# EAGLE library part MICROFIT-24-DUAL (library Molex)
MicroFit 3.0 (tm) Ridiculously Huge Header, 24 Circuits Datasheet (RA, with solder tab): http://www.molex.com/pdm_docs/sd/430452409_sd.pdf
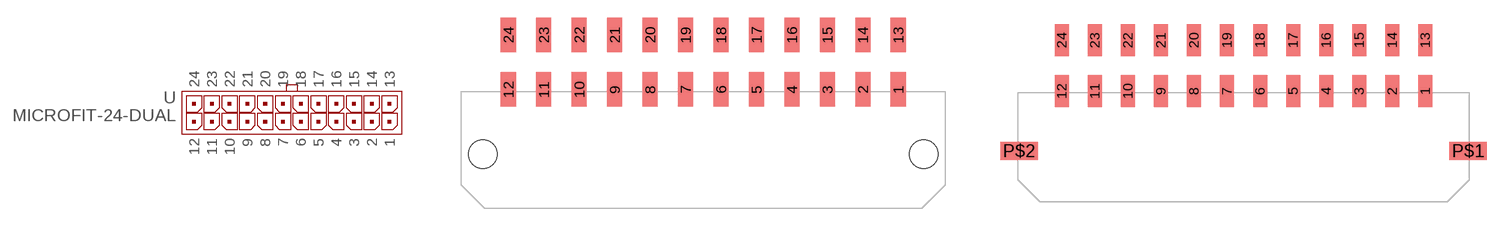
[diagram p11: symbol with the pads of MICROFIT-24-DUAL-RA-SMD; footprints MICROFIT-24-DUAL-RA-SMD, MICROFIT-24-DUAL-RA-SMD-SOLDER_TAB]

Designator prefix -

## MICROFIT-24-DUAL-RA-SMD  [MICROFIT-24-DUAL-RA-SMD]
1  1
2  2
3  3
4  4
5  5
6  6
7  7
8  8
9  9
10  10
11  11
12  12
13  13
14  14
15  15
16  16
17  17
18  18
19  19
20  20
21  21
22  22
23  23
24  24

## MICROFIT-24-DUAL-RA-SMD-SOLDER_TAB  [MICROFIT-24-DUAL-RA-SMD-SOLDER_TAB]
Pads as for MICROFIT-24-DUAL-RA-SMD

## Footprint MICROFIT-24-DUAL-RA-SMD (pad centres in mm)
smd 1.27 x 2.921: 1 16.5,0; 2 13.5,0; 3 10.5,0; 4 7.5,0; 5 4.5,0; 6 1.5,0; 7 -1.5,0; 8 -4.5,0; 9 -7.5,0; 10 -10.5,0; 11 -13.5,0; 12 -16.5,0; 13 16.5,4.63; 14 13.5,4.63; 15 10.5,4.63; 16 7.5,4.63; 17 4.5,4.63; 18 1.5,4.63; 19 -1.5,4.63; 20 -4.5,4.63; 21 -7.5,4.63; 22 -10.5,4.63; 23 -13.5,4.63; 24 -16.5,4.63
hole 2.41 at 18.65,-5.47
hole 2.41 at -18.65,-5.47

## Footprint MICROFIT-24-DUAL-RA-SMD-SOLDER_TAB (pad centres in mm)
smd 1.27 x 2.921: 1 16.5,5.08; 2 13.5,5.08; 3 10.5,5.08; 4 7.5,5.08; 5 4.5,5.08; 6 1.5,5.08; 7 -1.5,5.08; 8 -4.5,5.08; 9 -7.5,5.08; 10 -10.5,5.08; 11 -13.5,5.08; 12 -16.5,5.08; 13 16.5,9.71; 14 13.5,9.71; 15 10.5,9.71; 16 7.5,9.71; 17 4.5,9.71; 18 1.5,9.71; 19 -1.5,9.71; 20 -4.5,9.71; 21 -7.5,9.71; 22 -10.5,9.71; 23 -13.5,9.71; 24 -16.5,9.71
smd 3.43 x 1.65: P$1 20.385,-0.39; P$2 -20.385,-0.39